# Altium footprint library HO2.8-1B.PcbLib: 1 footprints
Each footprint in its own frame and in the unit in brackets; x right, y up, seen from the top. Pads: shape width x height; smd on the part's side, far side on the other; paste and mask are expansions set on the pad; w line width, h text height; cw(c..) or ccw(c..) is an arc to the next point about the centre after c.
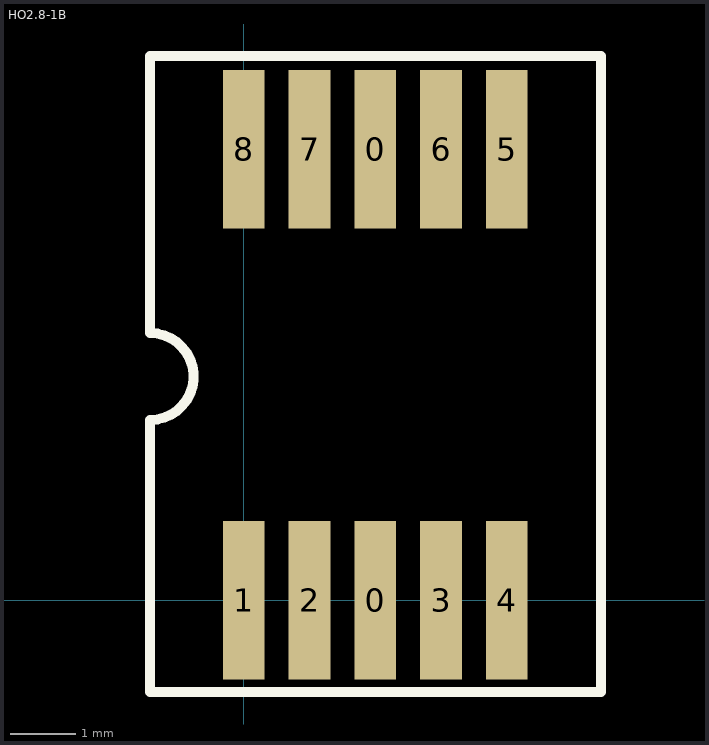
[diagram p0: the footprint, top view; thin cyan lines are the x and y axes]

## HO2.8-1B [mil]
pads (10):
  rect 25x95 smd: 0(78.74,0) 0(78.74,270) 1(0,0) 2(39.37,0) 3(118.11,0) 4(157.48,0) 5(157.48,270) 6(118.11,270) 7(39.37,270) 8(0,270)
Top Overlay:
  lines w6: -56,-55 -56,108 ccw(c-56,134) -56,160 -56,326 214,326 214,-55 -56,-55
3D body: height 114.17, standoff 35.43, extent -26,20 184,225
3D body: height 78.74, standoff 0, extent -51,-5 209,255